# Altium schematic symbol library TPS7A0228DBVR.SchLib: 1 symbol
Pins are listed as number, name and electrical type; pins without a type are passive.

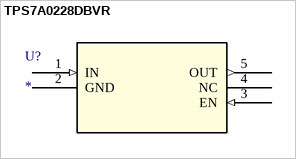
[diagram p0: symbol TPS7A0228DBVR]

## TPS7A0228DBVR
designator U?
No Description Available; Mfr_Name: Texas Instruments; RefDes: RefDes; Type: Type
footprint SOT23-5_DBV_TEX-L
pins: 1 IN (in), 2 GND (power), 3 EN (in), 4 NC, 5 OUT (out)